# Altium footprint library chip_2728.PcbLib: 1 footprints
Each footprint in its own frame and in the unit in brackets; x right, y up, seen from the top. Pads: shape width x height; smd on the part's side, far side on the other; paste and mask are expansions set on the pad; w line width, h text height; cw(c..) or ccw(c..) is an arc to the next point about the centre after c.
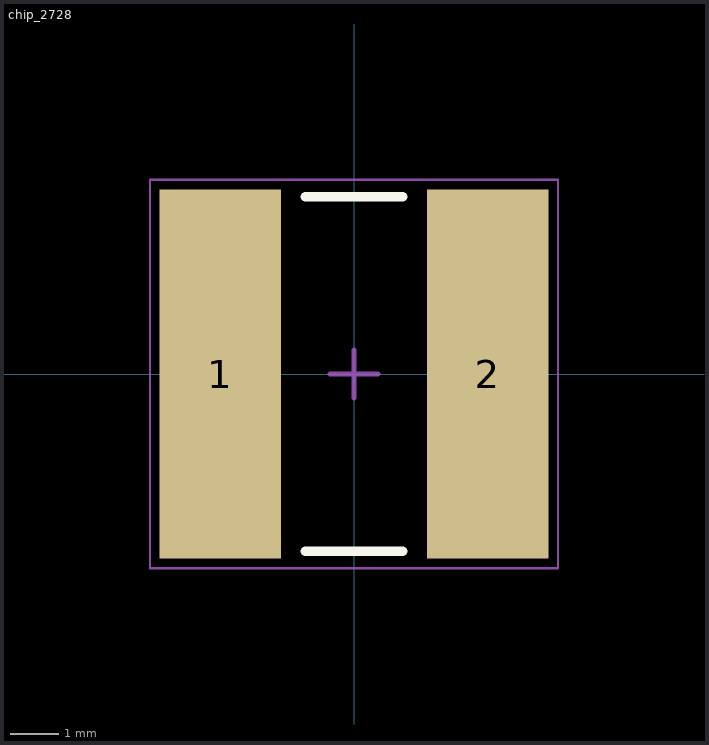
[diagram p0: the footprint, top view; thin cyan lines are the x and y axes]

## chip_2728 [mm]
height 1.09
pads (2):
  rect 2.5x7.6 smd: 1(-2.75,0) 2(2.75,0)
Top Overlay:
  lines w0.2: -1,-3.65 1,-3.65 ; -1,3.65 1,3.65
Mechanical 15:
  lines w0.05: -4.2,-4 -4.2,4 4.2,4 4.2,-4 -4.2,-4
  lines w0.1: -0.5,0 0.5,0 ; 0,-0.5 0,0.5
3D body "Stackpole_CSSH2728.stp": height 0.98, standoff -0.01, extent -3.355,-3.59 3.355,3.6